# Altium footprint library TDA2005R.PcbLib: 2 footprints
Each footprint in its own frame and in the unit in brackets; x right, y up, seen from the top. Pads: shape width x height; smd on the part's side, far side on the other; paste and mask are expansions set on the pad; w line width, h text height; cw(c..) or ccw(c..) is an arc to the next point about the centre after c.
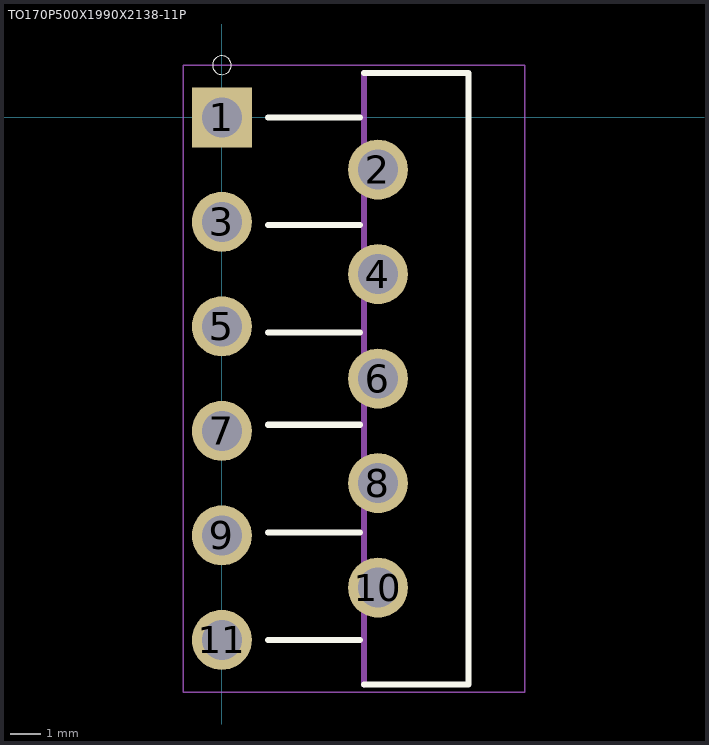
[diagram p0: the footprints below, top view; thin cyan lines are the x and y axes]

## PCBComponent_1 [mm]

## TO170P500X1990X2138-11P [mm]
pads (11):
  rect 1.95x1.95 hole 1.3: 1(0,0)
  round 1.95 hole 1.3: 2(5.08,-1.7) 3(0,-3.4) 4(5.08,-5.1) 5(0,-6.8) 6(5.08,-8.5) 7(0,-10.2) 8(5.08,-11.9) 9(0,-13.6) 10(5.08,-15.3) 11(0,-17)
Top Overlay:
  circle w0: c0,1.7 r0.304
  lines w0.2: 1.5,-17 4.5,-17 ; 1.5,-13.5 4.5,-13.5 ; 1.5,-10 4.5,-10 ; 1.5,-7 4.5,-7 ; 1.5,-3.5 4.5,-3.5 ; 1.5,0 4.5,0 ; 4.63,-18.45 8.03,-18.45 8.03,1.45 4.63,1.45
Mechanical 1:
  lines w0.2: 4.63,-18.45 4.63,1.45
Mechanical 4:
  lines w0.05: -1.25,-18.7 -1.25,1.7 9.85,1.7 9.85,-18.7 -1.25,-18.7